# Altium schematic symbol library MIRCOD.SchLib: 12 symbols
Pins are listed as number, name and electrical type; pins without a type are passive.

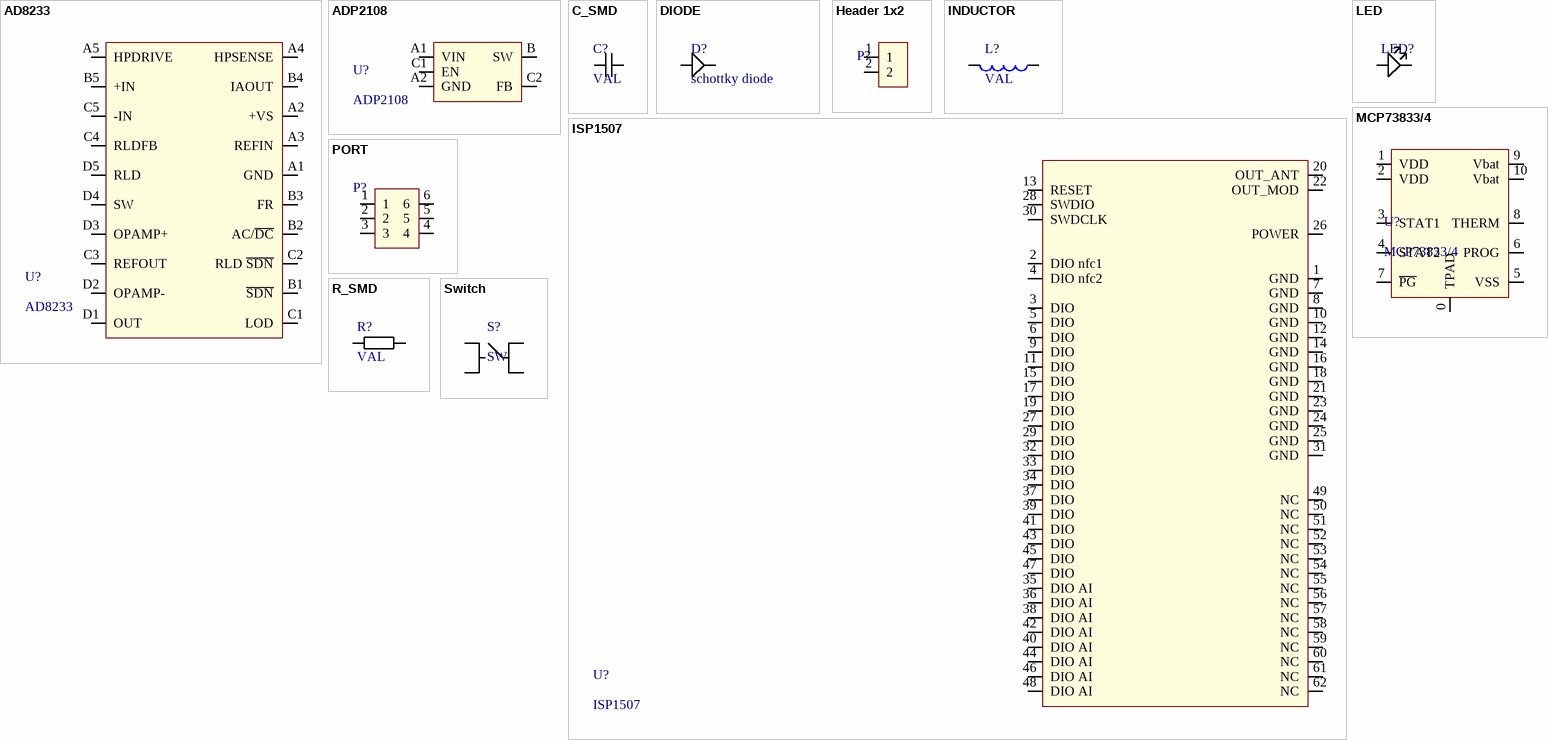
[diagram p0: symbols AD8233 to Switch]

## AD8233
designator U?
Low Noise,  Heart Rate Monitor for Wearable Products
footprint CB-20-13 (20-Ball, Backside-Coated, Wafer Level Chip Scale Package [WLCSP])
pins: A1 GND, A2 +VS, A3 REFIN, A4 HPSENSE, A5 HPDRIVE, B1 ~{SDN}, B2 AC/~{DC}, B3 FR, B4 IAOUT, B5 +IN, C1 LOD, C2 RLD ~{SDN}, C3 REFOUT, C4 RLDFB, C5 -IN, D1 OUT, D2 OPAMP-, D3 OPAMP+, D4 SW, D5 RLD

## ADP2108
designator U?
Compact, 600 mA, 3 MHz,  Step-Down DC-to-DC Converter
footprint CB-5-3 (5-Ball Wafer Level Chip Scale Package [WLCSP])
pins: A1 VIN, A2 GND, B SW, C1 EN, C2 FB

## C_SMD
designator C?, comment VAL
CAPACITOR
footprint Csmd_0402 (FOR CAP)
footprint CSMD_0603 (FOR CAP)
pins: 1, 2

## DIODE
designator D?, comment schottky diode
footprint DSMD_0603 (FOR DIODE)
pins: 1, 2

## Header 1x2
designator P?  (value not drawn)
footprint header-2
pins: 1, 2

## INDUCTOR
designator L?, comment VAL
footprint RDSMD_0603 (FOR DIODE)
pins: 1, 2

## ISP1507
designator U?
High Performance Bluetooth 5 Ready, NFC*  & ANT Low Energy Module with MCU & Antenna
footprint LGA62 ISP1507
pins: 1 GND, 2 DIO nfc1, 3 DIO, 4 DIO nfc2, 5 DIO, 6 DIO, 7 GND, 8 GND, 9 DIO, 10 GND, 11 DIO, 12 GND, 13 RESET, 14 GND, 15 DIO, 16 GND, 17 DIO, 18 GND, 19 DIO, 20 OUT_ANT, 21 GND, 22 OUT_MOD, 23 GND, 24 GND, 25 GND, 26 POWER, 27 DIO, 28 SWDIO, 29 DIO, 30 SWDCLK, 31 GND, 32 DIO, 33 DIO, 34 DIO, 35 DIO AI, 36 DIO AI, 37 DIO, 38 DIO AI, 39 DIO, 40 DIO AI, 41 DIO, 42 DIO AI, 43 DIO, 44 DIO AI, 45 DIO, 46 DIO AI, 47 DIO, 48 DIO AI, 49 NC, 50 NC, 51 NC, 52 NC, 53 NC, 54 NC, 55 NC, 56 NC, 57 NC, 58 NC, 59 NC, 60 NC, 61 NC, 62 NC

## LED
designator LED?
footprint RDSMD_0603 (FOR DIODE)
footprint GDSMD_0603 (FOR DIODE)
footprint BDSMD_0603 (FOR DIODE)
pins: 1, 2

## MCP73833/4
designator U?
Stand-Alone Linear Li-Ion / Li-Polymer Charge  Management Controller
footprint 10-Lead, 3mm x 3mm DFN (10-Lead Plastic Dual-Flat No-Lead Package (MF) 3x3x0.9 mm Body (DFN))
pins: 0 TPAD, 1 VDD, 2 VDD, 3 STAT1, 4 STAT2, 5 VSS, 6 PROG, 7 ~{PG}, 8 THERM, 9 Vbat, 10 Vbat

## PORT
designator P?  (value not drawn)
footprint H_3X2_1_27 (PORT)
pins: 1, 2, 3, 4, 5, 6

## R_SMD
designator R?, comment VAL
RESISTOR
footprint SMD_0402 (FOR RES)
footprint SMD_0603 (FOR RES)
pins: 1, 2

## Switch
designator S?, comment SW
KLS7-TS6604 6x6 Tact Switch Series
footprint 6x6 Tact Switch (KLS7-TS6604 6x6 Tact Switch Series)
pins: 1, 2, 3, 4